# EAGLE library part PCA9617A (library PatternAgents-NXP)
Hot swappable I2C-bus and SMBus bus buffer
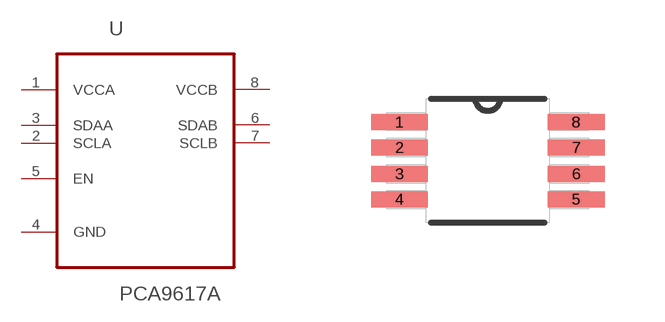
[diagram p7: symbol with the pads of SOP65P490X110-8N; footprint SOP65P490X110-8N]

Designator prefix U

## PCA9617A (MPN: PCA9514ADP,118; OC_FARNELL: -; OC_NEWARK: 70R6478; PACKAGE: TSSOP-8; SUPPLIER: NXP Semiconductors)  [SOP65P490X110-8N]
1  VCCA  pwr
2  SCLA
3  SDAA
4  GND  pas
5  EN  in
6  SDAB
7  SCLB
8  VCCB  pwr

## Footprint SOP65P490X110-8N (pad centres in mm)
smd 1.422 x 0.4: 1 -2.21,0.965; 2 -2.21,0.33; 3 -2.21,-0.33; 4 -2.21,-0.965; 5 2.21,-0.965; 6 2.21,-0.33; 7 2.21,0.33; 8 2.21,0.965